# EAGLE library part MCP3903 (library MCP3903)
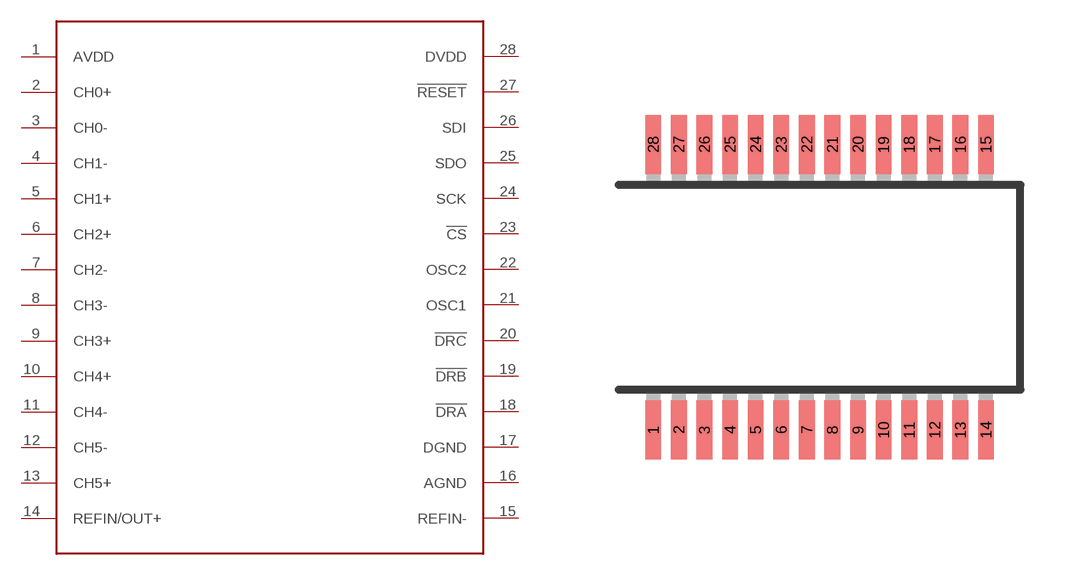
[diagram p0: symbol with the pads of SSOP28; footprint SSOP28]

Designator prefix -

## MCP3903  [SSOP28]
1  AVDD
2  CH0+
3  CH0-
4  CH1-
5  CH1+
6  CH2+
7  CH2-
8  CH3-
9  CH3+
10  CH4+
11  CH4-
12  CH5-
13  CH5+
14  REFIN/OUT+
15  REFIN-
16  AGND
17  DGND
18  !DRA
19  !DRB
20  !DRC
21  OSC1
22  OSC2
23  !CS
24  SCK
25  SDO
26  SDI
27  !RESET
28  DVDD

## Footprint SSOP28 (pad centres in mm)
Shrink Small Outline Package package type SS
smd 0.4 x 1.5: 1 -4.225,-3.625; 2 -3.575,-3.625; 3 -2.925,-3.625; 4 -2.275,-3.625; 5 -1.625,-3.625; 6 -0.975,-3.625; 7 -0.325,-3.625; 8 0.325,-3.625; 9 0.975,-3.625; 10 1.625,-3.625; 11 2.275,-3.625; 12 2.925,-3.625; 13 3.575,-3.625; 14 4.225,-3.625; 15 4.225,3.625; 16 3.575,3.625; 17 2.925,3.625; 18 2.275,3.625; 19 1.625,3.625; 20 0.975,3.625; 21 0.325,3.625; 22 -0.325,3.625; 23 -0.975,3.625; 24 -1.625,3.625; 25 -2.275,3.625; 26 -2.925,3.625; 27 -3.575,3.625; 28 -4.225,3.625